# Altium schematic symbol library C19268654.SchLib: 1 symbol
Pins are listed as number, name and electrical type; pins without a type are passive.

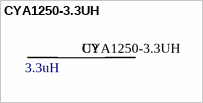
[diagram p0: symbol CYA1250-3.3UH]

## CYA1250-3.3UH
designator U?  value 3.3uH
20A 3.3uH ±20% 32A Molded inductor SMD,13.8x12.8mm Fixed Inductors; Name: C19268654; Source: LCSC
footprint IND-SMD_L13.8-W12.8 (20A 3.3uH ±20% 32A Molded inductor SMD,13.8x12.8mm Fixed Inductors)
pins: 1, 2